# EAGLE library part WD1772 (library 8Bit_Parts)
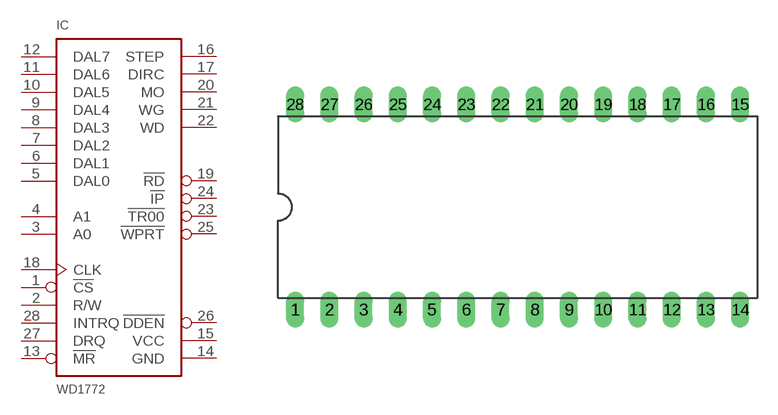
[diagram p14: symbol with the pads of DIL28; footprint DIL28]

Designator prefix IC

## WD1772  [DIL28]
1  !CS  in
2  R/W  in
3  A0  in
4  A1  in
5  DAL0
6  DAL1
7  DAL2
8  DAL3
9  DAL4
10  DAL5
11  DAL6
12  DAL7
13  !MR  in
14  GND  pwr
15  VCC  pwr
16  STEP  out
17  DIRC  out
18  CLK  in
19  !RD  in
20  MO  out
21  WG  out
22  WD  out
23  !TR00  in
24  !IP  in
25  !WPRT  in
26  !DDEN  in
27  DRQ  out
28  INTRQ  out

## Footprint DIL28 (pad centres in mm)
Dual In Line Package
drill 0.813 long: 1 -16.51,-7.62; 2 -13.97,-7.62; 3 -11.43,-7.62; 4 -8.89,-7.62; 5 -6.35,-7.62; 6 -3.81,-7.62; 7 -1.27,-7.62; 8 1.27,-7.62; 9 3.81,-7.62; 10 6.35,-7.62; 11 8.89,-7.62; 12 11.43,-7.62; 13 13.97,-7.62; 14 16.51,-7.62; 15 16.51,7.62; 16 13.97,7.62; 17 11.43,7.62; 18 8.89,7.62; 19 6.35,7.62; 20 3.81,7.62; 21 1.27,7.62; 22 -1.27,7.62; 23 -3.81,7.62; 24 -6.35,7.62; 25 -8.89,7.62; 26 -11.43,7.62; 27 -13.97,7.62; 28 -16.51,7.62